# Altium footprint library capstonefootprints2.PcbLib: 2 footprints
Each footprint in its own frame and in the unit in brackets; x right, y up, seen from the top. Pads: shape width x height; smd on the part's side, far side on the other; paste and mask are expansions set on the pad; w line width, h text height; cw(c..) or ccw(c..) is an arc to the next point about the centre after c.
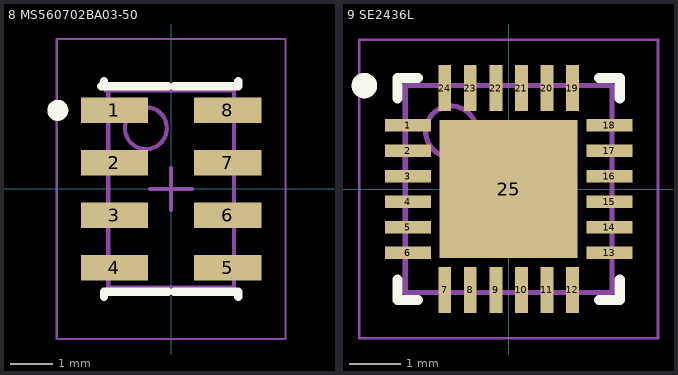
[diagram p0: the footprints below, top view; thin cyan lines are the x and y axes]

## 8 MS560702BA03-50 [mm] "LCC, 8-Pins, Body 3.00x4.70mmx1.00mm, Pitch 1.25mm, IPC Low Density"
height 1
pads (8):
  rect 1.6x0.6 smd: 1(-1.35,1.875) 2(-1.35,0.625) 3(-1.35,-0.625) 4(-1.35,-1.875) 5(1.35,-1.875) 6(1.35,-0.625) 7(1.35,0.625) 8(1.35,1.875)
Top Overlay:
  circle w0.25: c-2.7,1.875 r0.125
  lines w0.2: -1.6,-2.575 -1.6,-2.45 -0.075,-2.45 ; -1.6,2.575 -1.6,2.512 -1.662,2.45 -0.075,2.45 ; 0.075,-2.45 1.6,-2.45 1.6,-2.575 ; 0.075,2.45 1.6,2.45 1.6,2.575
Mechanical 13:
  circle w0.1: c-0.6,1.45 r0.5
  lines w0.1: -1.562,2.35 1.5,2.35 1.5,-2.35 -1.5,-2.35 -1.5,2.412 -1.562,2.35
Mechanical 15:
  lines w0.05: -2.725,-3.575 -2.725,3.575 2.725,3.575 2.725,-3.575 -2.725,-3.575
  lines w0.1: -0.5,0 0.5,0 ; 0,-0.5 0,0.5
3D body: height 1, standoff 0, extent -1.562,-2.35 1.5,2.412

## 9 SE2436L [mm] "QFN, 24-Leads, Body 4.00x4.00mm, Pitch 0.50mm, Thermal Pad 2.70x2.70mm, IPC Low Density"
height 0.9
pads (25):
  rect 0.9x0.25 smd: 1(-1.975,1.25) 2(-1.975,0.75) 3(-1.975,0.25) 4(-1.975,-0.25) 5(-1.975,-0.75) 6(-1.975,-1.25) 13(1.975,-1.25) 14(1.975,-0.75) 15(1.975,-0.25) 16(1.975,0.25) 17(1.975,0.75) 18(1.975,1.25)
  rect 0.25x0.9 smd: 7(-1.25,-1.975) 8(-0.75,-1.975) 9(-0.25,-1.975) 10(0.25,-1.975) 11(0.75,-1.975) 12(1.25,-1.975) 19(1.25,1.975) 20(0.75,1.975) 21(0.25,1.975) 22(-0.25,1.975) 23(-0.75,1.975) 24(-1.25,1.975)
  rect 2.7x2.7 smd: 25(0,0)
Top Overlay:
  circle w0.25: c-2.825,2.025 r0.125
  lines w0.2: -2.175,-1.775 -2.175,-2.175 -1.775,-2.175 ; -2.175,1.775 -2.175,2.175 -1.775,2.175 ; 1.775,-2.175 2.175,-2.175 2.175,-1.775 ; 1.775,2.175 2.175,2.175 2.175,1.775
Mechanical 13:
  circle w0.1: c-1.125,1.125 r0.5
  lines w0.1: -2.025,-2.025 -2.025,2.025 2.025,2.025 2.025,-2.025 -2.025,-2.025
Mechanical 15:
  lines w0.05: -2.925,-2.925 -2.925,2.925 2.925,2.925 2.925,-2.925 -2.925,-2.925
  lines w0.1: -0.5,0 0.5,0 ; 0,-0.5 0,0.5
3D body: height 0.9, standoff 0, extent -2.025,-2.025 2.025,2.025